# Altium schematic symbol library RJ45_GENERIC.SchLib: 1 symbol
Pins are listed as number, name and electrical type; pins without a type are passive.

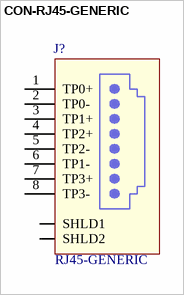
[diagram p0: symbol CON-RJ45-GENERIC]

## CON-RJ45-GENERIC
designator J?, comment RJ45-GENERIC
External Shield PCB Jack
footprint TJ16S-8P8C
pins: 1 TP0+, 2 TP0-, 3 TP1+, 4 TP2+, 5 TP2-, 6 TP1-, 7 TP3+, 8 TP3-, SHLD1, SHLD2